# Altium footprint library INDUCTORS.PCBLIB: 8 footprints
Each footprint in its own frame and in the unit in brackets; x right, y up, seen from the top. Pads: shape width x height; smd on the part's side, far side on the other; paste and mask are expansions set on the pad; w line width, h text height; cw(c..) or ccw(c..) is an arc to the next point about the centre after c.
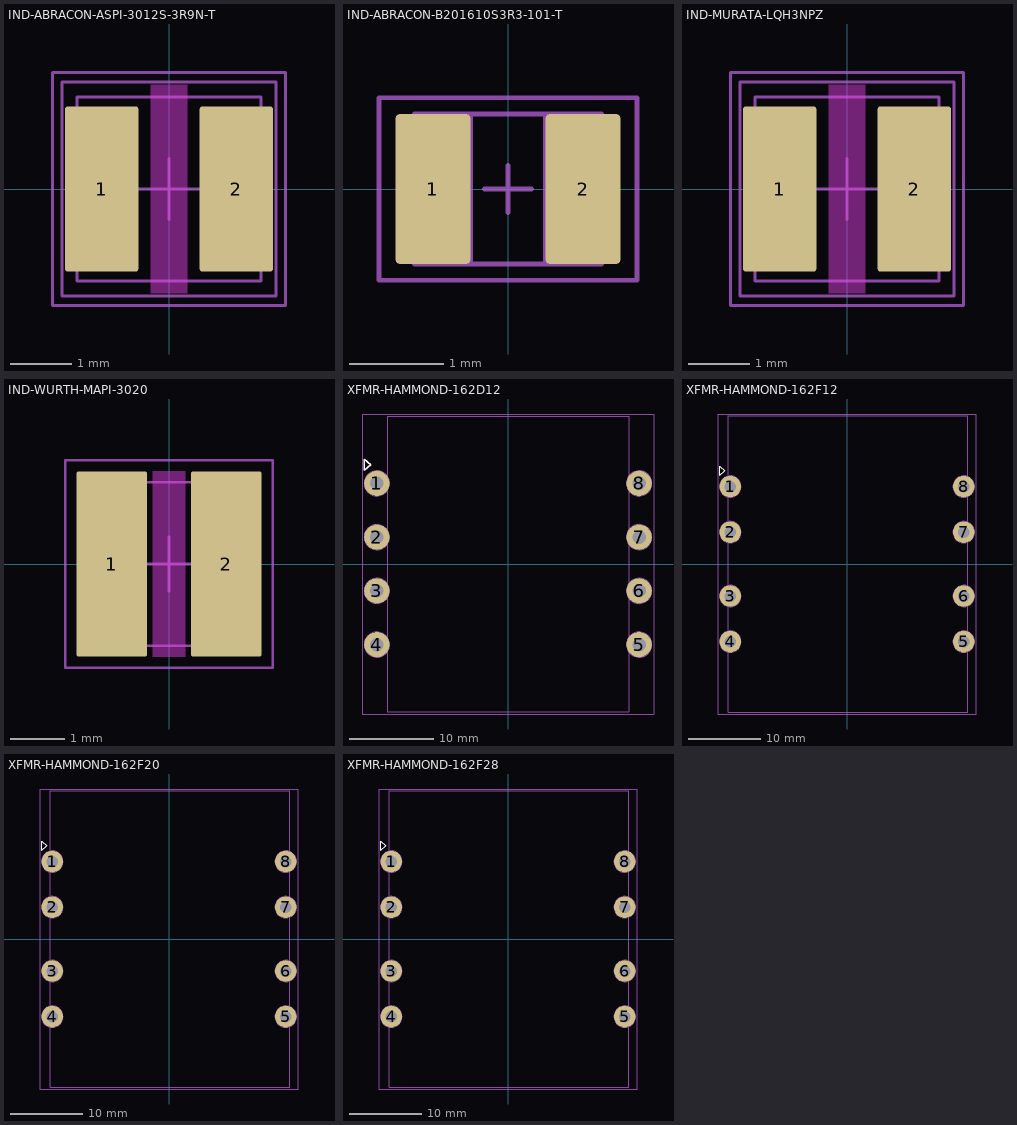
[diagram p0: the footprints below, top view; thin cyan lines are the x and y axes]

## IND-ABRACON-ASPI-3012S-3R9N-T [mm]
pads (2):
  rrect8% 1.2x2.7 smd mask+0.05: 1(-1.1,0) 2(1.1,0)
Top Layer keep-out:
  region: -0.3,1.7 0.3,1.7 0.3,-1.7 -0.3,-1.7
Top Courtyard:
  lines w0.05: -0.5,0 0.5,0 ; 0,-0.5 0,0.5 ; -1.9,-1.9 -1.9,1.9 1.9,1.9 1.9,-1.9 -1.9,-1.9 ; -1.5,-1.5 1.5,-1.5 1.5,1.5 -1.5,1.5 -1.5,-1.5
Top Assembly:
  lines w0.05: -1.5,-1.5 -1.5,1.5 1.5,1.5 1.5,-1.5 -1.5,-1.5
Mechanical 15:
  lines w0.05: -1.75,-1.75 -1.75,1.75 1.75,1.75 1.75,-1.75 -1.75,-1.75
3D body "LQH3NPZ100MMEL.STEP": height 1.51, standoff 0.01, extent -1.5,-1.5 1.5,1.5

## IND-ABRACON-B201610S3R3-101-T [mm]
pads (2):
  rrect12% 0.8x1.6 smd paste-2539.97 mask+0.05: 1(-0.8,0) 2(0.8,0)
Top Courtyard:
  lines w0.05: -0.25,0 0,0 ; 0,-0.25 0,0 ; 0,0.25 0,0 ; 0.25,0 0,0 ; -1.375,-0.975 0.4,-0.975 1.375,-0.975 1.375,0.975 -1.375,0.975 -1.375,-0.975
Top Assembly:
  lines w0.05: -0.4,-0.8 -0.4,0.8 ; 0.4,0.8 0.4,-0.8 1,-0.8 ; 1,-0.8 -1,-0.8 -1,0.8 1,0.8 1,-0.8

## IND-MURATA-LQH3NPZ [mm]
pads (2):
  rrect8% 1.2x2.7 smd mask+0.05: 1(-1.1,0) 2(1.1,0)
Top Layer keep-out:
  region: -0.3,1.7 0.3,1.7 0.3,-1.7 -0.3,-1.7
Top Courtyard:
  lines w0.05: -0.5,0 0.5,0 ; 0,-0.5 0,0.5 ; -1.9,-1.9 -1.9,1.9 1.9,1.9 1.9,-1.9 -1.9,-1.9 ; -1.5,-1.5 1.5,-1.5 1.5,1.5 -1.5,1.5 -1.5,-1.5
Top Assembly:
  lines w0.05: -1.5,-1.5 -1.5,1.5 1.5,1.5 1.5,-1.5 -1.5,-1.5
Mechanical 15:
  lines w0.05: -1.75,-1.75 -1.75,1.75 1.75,1.75 1.75,-1.75 -1.75,-1.75
3D body "LQH3NPZ100MMEL.STEP": height 1.51, standoff 0.01, extent -1.5,-1.5 1.5,1.5

## IND-WURTH-MAPI-3020 [mm]
pads (2):
  rrect7% 1.3x3.4 smd mask+0.05: 1(-1.05,0) 2(1.05,0)
Top Layer keep-out:
  region: -0.3,1.7 0.3,1.7 0.3,-1.7 -0.3,-1.7
Top Courtyard:
  lines w0.05: -0.5,0 0.5,0 ; 0,-0.5 0,0.5 ; -1.9,-1.9 1.9,-1.9 1.9,1.9 -1.9,1.9 -1.9,-1.9 ; -1.5,-1.5 -1.5,1.5 1.5,1.5 1.5,-1.5 -1.5,-1.5
Top Assembly:
  lines w0.05: -1.5,-1.5 1.5,-1.5 1.5,1.5 -1.5,1.5 -1.5,-1.5
3D body "WE-IndMAPI_SSMC-30xx.stp": height 2, standoff 0, extent -1.5,-1.5 1.5,1.5

## XFMR-HAMMOND-162D12 [mm] "XFMR,HAMMOND,162D12"
pads (8):
  round 3 hole 1.6 unplated: 1(-15.494,9.525) 2(-15.494,3.175) 3(-15.494,-3.175) 4(-15.494,-9.525) 5(15.494,-9.525) 6(15.494,-3.175) 7(15.494,3.175) 8(15.494,9.525)
Top Overlay:
  lines w0.15: -16.988,11.105 -16.238,11.73 -16.988,12.355 -16.988,11.73 -16.988,11.105
Top Courtyard:
  lines w0.05: -17.25,-17.725 17.25,-17.725 17.25,17.725 -17.25,17.725 -17.25,-17.725
Top Assembly:
  circle w0.05: c15.494,-9.525 r1.5
  circle w0.05: c15.494,-9.525 r0.819
  circle w0.05: c15.494,-3.175 r1.5
  circle w0.05: c15.494,-3.175 r0.819
  circle w0.05: c15.494,3.175 r1.5
  circle w0.05: c15.494,3.175 r0.819
  circle w0.05: c15.494,9.525 r1.5
  circle w0.05: c15.494,9.525 r0.819
  circle w0.05: c-15.494,9.525 r1.5
  circle w0.05: c-15.494,9.525 r0.819
  circle w0.05: c-15.494,3.175 r1.5
  circle w0.05: c-15.494,3.175 r0.819
  circle w0.05: c-15.494,-3.175 r1.5
  circle w0.05: c-15.494,-3.175 r0.819
  circle w0.05: c-15.494,-9.525 r1.5
  circle w0.05: c-15.494,-9.525 r0.819
  lines w0.05: -14.287,-17.462 -14.287,17.462 14.287,17.462 14.287,-17.462 -14.287,-17.462
  text "1" at -16.392,8.314 h3
3D body: height 1.52, standoff -4.32, extent 14.986,9.144 16.002,9.906
3D body: height 1.52, standoff -4.32, extent 14.986,2.794 16.002,3.556
3D body: height 1.52, standoff -4.32, extent 14.986,-3.556 16.002,-2.794
3D body: height 1.52, standoff -4.32, extent 14.986,-9.906 16.002,-9.144
3D body: height 1.52, standoff -4.32, extent -16.002,-9.906 -14.986,-9.144
3D body: height 1.52, standoff -4.32, extent -16.002,-3.556 -14.986,-2.794
3D body: height 1.52, standoff -4.32, extent -16.002,2.794 -14.986,3.556
3D body: height 1.52, standoff -4.32, extent -16.002,9.144 -14.986,9.906
3D body: height 22.86, standoff 2.54, extent 0.635,0 8.763,11.05
3D body: height 22.86, standoff 2.54, extent -8.763,-11.1 -0.635,0
3D body: height 22.86, standoff 2.54, extent -8.763,0 -0.635,11.05
3D body: height 23.62, standoff 0, extent -0.635,-12.344 0.635,12.294
3D body: height 23.62, standoff 0, extent -10.033,-12.344 -8.763,12.294
3D body: height 22.86, standoff 2.54, extent 0.635,-11.1 8.763,0
3D body: height 15.75, standoff 8.89, extent -14.287,-17.462 14.287,17.462
3D body: height 23.62, standoff 0, extent 8.763,-12.344 10.033,12.294
3D body: height 8.89, standoff 0, extent 10.033,-12.344 15.494,12.294
3D body: height 8.89, standoff 0, extent -15.494,-12.344 -10.033,12.294

## XFMR-HAMMOND-162F12 [mm] "XFMR,HAMMOND,162F12"
pads (8):
  round 3 hole 1.6 unplated: 1(-16.256,10.795) 2(-16.256,4.445) 3(-16.256,-4.445) 4(-16.256,-10.795) 5(16.256,-10.795) 6(16.256,-4.445) 7(16.256,4.445) 8(16.256,10.795)
Top Overlay:
  lines w0.15: -17.75,12.375 -17,13 -17.75,13.625 -17.75,13 -17.75,12.375
Top Courtyard:
  lines w0.05: -18,-20.875 18,-20.875 18,20.9 -18,20.9 -18,-20.875
Top Assembly:
  circle w0.05: c16.256,-10.795 r1.5
  circle w0.05: c16.256,-10.795 r0.819
  circle w0.05: c16.256,-4.445 r1.5
  circle w0.05: c16.256,-4.445 r0.819
  circle w0.05: c16.256,4.445 r1.5
  circle w0.05: c16.256,4.445 r0.819
  circle w0.05: c16.256,10.795 r1.5
  circle w0.05: c16.256,10.795 r0.819
  circle w0.05: c-16.256,10.795 r1.5
  circle w0.05: c-16.256,10.795 r0.819
  circle w0.05: c-16.256,4.445 r1.5
  circle w0.05: c-16.256,4.445 r0.819
  circle w0.05: c-16.256,-4.445 r1.5
  circle w0.05: c-16.256,-4.445 r0.819
  circle w0.05: c-16.256,-10.795 r1.5
  circle w0.05: c-16.256,-10.795 r0.819
  lines w0.05: -16.548,-20.637 -16.548,20.638 16.802,20.638 16.802,-20.637 -16.548,-20.637
  text "1" at -17.154,9.584 h3
3D body: height 1.52, standoff -4.32, extent 15.748,10.414 16.764,11.176
3D body: height 1.52, standoff -4.32, extent 15.748,4.064 16.764,4.826
3D body: height 1.52, standoff -4.32, extent 15.748,-4.826 16.764,-4.064
3D body: height 1.52, standoff -4.32, extent 15.748,-11.176 16.764,-10.414
3D body: height 1.52, standoff -4.32, extent -16.764,-11.176 -15.748,-10.414
3D body: height 1.52, standoff -4.32, extent -16.764,-4.826 -15.748,-4.064
3D body: height 1.52, standoff -4.32, extent -16.764,4.064 -15.748,4.826
3D body: height 1.52, standoff -4.32, extent -16.764,10.414 -15.748,11.176
3D body: height 30.48, standoff 2.54, extent 0.635,0 8.763,13.335
3D body: height 30.48, standoff 2.54, extent -8.763,-13.335 -0.635,0
3D body: height 30.48, standoff 2.54, extent -8.763,0 -0.635,13.335
3D body: height 33.02, standoff 0, extent -0.635,-13.97 0.635,13.97
3D body: height 33.02, standoff 0, extent -10.033,-13.97 -8.763,13.97
3D body: height 30.48, standoff 2.54, extent 0.635,-13.335 8.763,0
3D body: height 25.4, standoff 8.89, extent -16.548,-20.637 16.802,20.638
3D body: height 33.02, standoff 0, extent 8.763,-13.97 10.033,13.97
3D body: height 8.89, standoff 0, extent -15.494,2.54 -9.144,12.7
3D body: height 8.89, standoff 0, extent 9.144,2.54 15.494,12.7
3D body: height 8.89, standoff 0, extent 9.144,-12.7 15.494,-2.54
3D body: height 8.89, standoff 0, extent -15.494,-12.7 -9.144,-2.54

## XFMR-HAMMOND-162F20 [mm] "XFMR,HAMMOND,162F20"
pads (8):
  round 3 hole 1.6 unplated: 1(-16.256,10.795) 2(-16.256,4.445) 3(-16.256,-4.445) 4(-16.256,-10.795) 5(16.256,-10.795) 6(16.256,-4.445) 7(16.256,4.445) 8(16.256,10.795)
Top Overlay:
  lines w0.15: -17.75,12.375 -17,13 -17.75,13.625 -17.75,13 -17.75,12.375
Top Courtyard:
  lines w0.05: -18,-20.875 18,-20.875 18,20.9 -18,20.9 -18,-20.875
Top Assembly:
  circle w0.05: c16.256,-10.795 r1.5
  circle w0.05: c16.256,-10.795 r0.819
  circle w0.05: c16.256,-4.445 r1.5
  circle w0.05: c16.256,-4.445 r0.819
  circle w0.05: c16.256,4.445 r1.5
  circle w0.05: c16.256,4.445 r0.819
  circle w0.05: c16.256,10.795 r1.5
  circle w0.05: c16.256,10.795 r0.819
  circle w0.05: c-16.256,10.795 r1.5
  circle w0.05: c-16.256,10.795 r0.819
  circle w0.05: c-16.256,4.445 r1.5
  circle w0.05: c-16.256,4.445 r0.819
  circle w0.05: c-16.256,-4.445 r1.5
  circle w0.05: c-16.256,-4.445 r0.819
  circle w0.05: c-16.256,-10.795 r1.5
  circle w0.05: c-16.256,-10.795 r0.819
  lines w0.05: -16.548,-20.637 -16.548,20.638 16.802,20.638 16.802,-20.637 -16.548,-20.637
  text "1" at -17.154,9.584 h3
3D body: height 1.52, standoff -4.32, extent 15.748,10.414 16.764,11.176
3D body: height 1.52, standoff -4.32, extent 15.748,4.064 16.764,4.826
3D body: height 1.52, standoff -4.32, extent 15.748,-4.826 16.764,-4.064
3D body: height 1.52, standoff -4.32, extent 15.748,-11.176 16.764,-10.414
3D body: height 1.52, standoff -4.32, extent -16.764,-11.176 -15.748,-10.414
3D body: height 1.52, standoff -4.32, extent -16.764,-4.826 -15.748,-4.064
3D body: height 1.52, standoff -4.32, extent -16.764,4.064 -15.748,4.826
3D body: height 1.52, standoff -4.32, extent -16.764,10.414 -15.748,11.176
3D body: height 30.48, standoff 2.54, extent 0.635,0 8.763,13.335
3D body: height 30.48, standoff 2.54, extent -8.763,-13.335 -0.635,0
3D body: height 30.48, standoff 2.54, extent -8.763,0 -0.635,13.335
3D body: height 33.02, standoff 0, extent -0.635,-13.97 0.635,13.97
3D body: height 33.02, standoff 0, extent -10.033,-13.97 -8.763,13.97
3D body: height 30.48, standoff 2.54, extent 0.635,-13.335 8.763,0
3D body: height 25.4, standoff 8.89, extent -16.548,-20.637 16.802,20.638
3D body: height 33.02, standoff 0, extent 8.763,-13.97 10.033,13.97
3D body: height 8.89, standoff 0, extent -15.494,2.54 -9.144,12.7
3D body: height 8.89, standoff 0, extent 9.144,2.54 15.494,12.7
3D body: height 8.89, standoff 0, extent 9.144,-12.7 15.494,-2.54
3D body: height 8.89, standoff 0, extent -15.494,-12.7 -9.144,-2.54

## XFMR-HAMMOND-162F28 [mm] "XFMR,HAMMOND,162F28"
pads (8):
  round 3 hole 1.6 unplated: 1(-16.256,10.795) 2(-16.256,4.445) 3(-16.256,-4.445) 4(-16.256,-10.795) 5(16.256,-10.795) 6(16.256,-4.445) 7(16.256,4.445) 8(16.256,10.795)
Top Overlay:
  lines w0.15: -17.75,12.375 -17.75,13 -17.75,13.625 -17,13 -17.75,12.375
Top Courtyard:
  lines w0.05: -18,-20.875 -18,20.9 18,20.9 18,-20.875 -18,-20.875
Top Assembly:
  circle w0.05: c-16.256,-10.795 r0.819
  circle w0.05: c-16.256,-10.795 r1.5
  circle w0.05: c-16.256,-4.445 r0.819
  circle w0.05: c-16.256,-4.445 r1.5
  circle w0.05: c-16.256,4.445 r0.819
  circle w0.05: c-16.256,4.445 r1.5
  circle w0.05: c-16.256,10.795 r0.819
  circle w0.05: c-16.256,10.795 r1.5
  circle w0.05: c16.256,10.795 r0.819
  circle w0.05: c16.256,10.795 r1.5
  circle w0.05: c16.256,4.445 r0.819
  circle w0.05: c16.256,4.445 r1.5
  circle w0.05: c16.256,-4.445 r0.819
  circle w0.05: c16.256,-4.445 r1.5
  circle w0.05: c16.256,-10.795 r0.819
  circle w0.05: c16.256,-10.795 r1.5
  lines w0.05: -16.548,-20.637 16.802,-20.637 16.802,20.638 -16.548,20.638 -16.548,-20.637
  text "1" at -17.154,9.584 h3
3D body: height 33.02, standoff 0, extent 8.763,-13.97 10.033,13.97
3D body: height 25.4, standoff 8.89, extent -16.548,-20.637 16.802,20.638
3D body: height 30.48, standoff 2.54, extent 0.635,-13.335 8.763,0
3D body: height 33.02, standoff 0, extent -10.033,-13.97 -8.763,13.97
3D body: height 33.02, standoff 0, extent -0.635,-13.97 0.635,13.97
3D body: height 30.48, standoff 2.54, extent -8.763,0 -0.635,13.335
3D body: height 30.48, standoff 2.54, extent -8.763,-13.335 -0.635,0
3D body: height 30.48, standoff 2.54, extent 0.635,0 8.763,13.335
3D body: height 1.52, standoff -4.32, extent -16.764,10.414 -15.748,11.176
3D body: height 1.52, standoff -4.32, extent -16.764,4.064 -15.748,4.826
3D body: height 1.52, standoff -4.32, extent -16.764,-4.826 -15.748,-4.064
3D body: height 1.52, standoff -4.32, extent -16.764,-11.176 -15.748,-10.414
3D body: height 1.52, standoff -4.32, extent 15.748,-11.176 16.764,-10.414
3D body: height 1.52, standoff -4.32, extent 15.748,-4.826 16.764,-4.064
3D body: height 1.52, standoff -4.32, extent 15.748,4.064 16.764,4.826
3D body: height 1.52, standoff -4.32, extent 15.748,10.414 16.764,11.176
3D body: height 8.89, standoff 0, extent -15.494,-12.7 -9.144,-2.54
3D body: height 8.89, standoff 0, extent -15.494,2.54 -9.144,12.7
3D body: height 8.89, standoff 0, extent 9.144,2.54 15.494,12.7
3D body: height 8.89, standoff 0, extent 9.144,-12.7 15.494,-2.54